# EAGLE library part SW-DIP4 (library chuong)
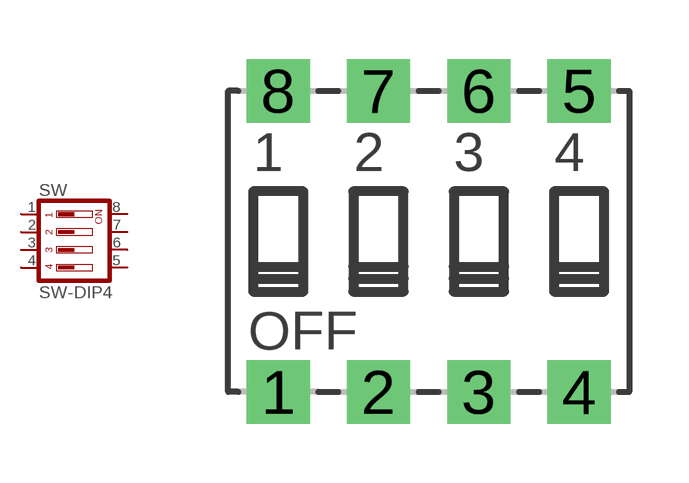
[diagram p33: symbol with the pads of SW-DIP4; footprint SW-DIP4]

Designator prefix SW

## SW-DIP4  [SW-DIP4]
1  1  pas
2  2  pas
3  3  pas
4  4  pas
5  5  pas
6  6  pas
7  7  pas
8  8  pas

## Footprint SW-DIP4 (pad centres in mm)
drill 0.813 pad 1.6 square: 1 -3.81,-3.81; 2 -1.27,-3.81; 3 1.27,-3.81; 4 3.81,-3.81; 5 3.81,3.81; 6 1.27,3.81; 7 -1.27,3.81; 8 -3.81,3.81